# Altium schematic symbol library Schlib1.SchLib: 1 symbol
Pins are listed as number, name and electrical type; pins without a type are passive.

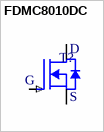
[diagram p0: symbol FDMC8010DC]

## FDMC8010DC
designator T?  (value not drawn)
Manufacturer: ON Semiconductor / Fairchild; Manufacturer Part Number: FDMC8010DC; Element Configuration: Dual; Supplier 1: Digi-Key; Stock 1: 36; Pricing 1: 1 = 1,29000, 10 = 1,15600, 100 = 0,90120, 500 = 0,74448, 1000 = 0,58774 (USD); RoHS: No; Mount: Surface Mount; Weight: 0.039g; Min Operating Temperature: -55°C; Max Operating Temperature: 150°C; Supplier Part Number 1: FDMC8010DCOSCT-ND
footprint PQFN8 3.3X3.3
pins: 1 S, 2 S, 3 S, 4 G (in), 5 D, 6 D, 7 D, 8 D, 9 D